# Altium schematic symbol library 598-8270-107F.SchLib: 1 symbol
Pins are listed as number, name and electrical type; pins without a type are passive.

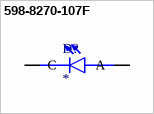
[diagram p0: symbol 598-8270-107F]

## 598-8270-107F
designator D?
LED; 1206 SMT LED,GREEN,ALINGAP,WATER CLEAR LENS,140 DEG VIEWING ANGLE | Dialight 598-8270-107F; SnapEDA_Link: https://www.snapeda.com/parts/598-8270-107F/Dialight/view-part/?ref=snap; Package: SMD-2 Dialight; Value: *; MF: Dialight; MP: 598-8270-107F; Check_prices: https://www.snapeda.com/parts/598-8270-107F/Dialight/view-part/?ref=eda
footprint LEDC3216X110N
pins: A, C